# EAGLE library part SIM800C (library SIM800C)
Module: GSM/Bluetooth; GPRS; 2G; 1800MHz, 900MHz; 85.6kbps; SMD by Furkan SONMEZ s.furkan@gmail.com
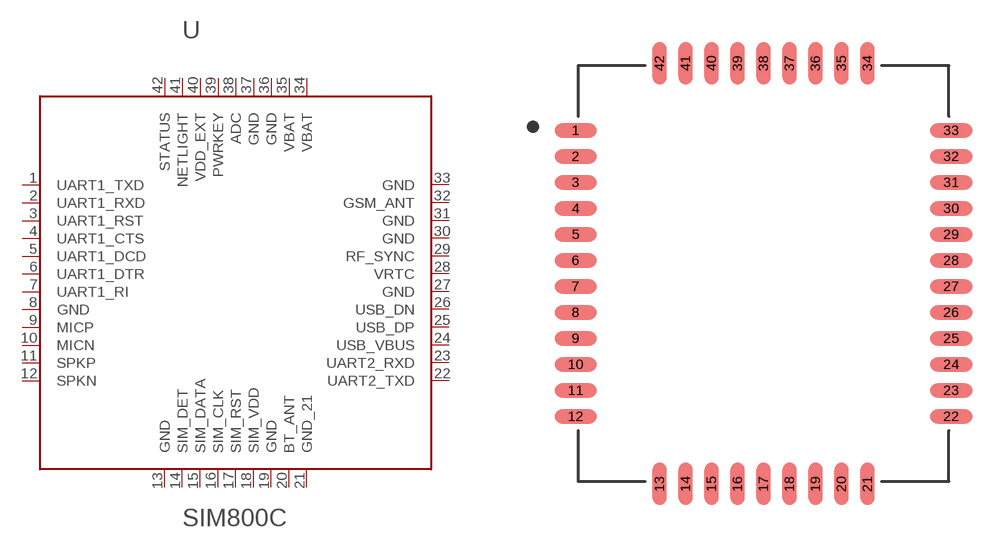
[diagram p0: symbol with the pads of LCC110P1570X1760X250-42N; footprint LCC110P1570X1760X250-42N]

Designator prefix U

## SIM800C (AVAILABILITY: Unavailable; DESCRIPTION: Module: GSM/Bluetooth; GPRS; 2G; 1800MHz, 900MHz; 85.6kbps; SMD; MF: Simcom; MP: SIM800C; PACKAGE: None; PRICE: None)  [LCC110P1570X1760X250-42N]
1  UART1_TXD
2  UART1_RXD
3  UART1_RST
4  UART1_CTS
5  UART1_DCD
6  UART1_DTR
7  UART1_RI
8  GND
9  MICP
10  MICN
11  SPKP
12  SPKN
13  GND
14  SIM_DET
15  SIM_DATA
16  SIM_CLK
17  SIM_RST
18  SIM_VDD
19  GND
20  BT_ANT
21  GND_21
22  UART2_TXD
23  UART2_RXD
24  USB_VBUS
25  USB_DP
26  USB_DN
27  GND
28  VRTC  pwr
29  RF_SYNC
30  GND
31  GND
32  GSM_ANT
33  GND
34  VBAT  pwr
35  VBAT  pwr
36  GND
37  GND
38  ADC
39  PWRKEY
40  VDD_EXT  pwr
41  NETLIGHT
42  STATUS

## Footprint LCC110P1570X1760X250-42N (pad centres in mm)
smd 1.8 x 0.6: 1 -7.95,6.05; 2 -7.95,4.95; 3 -7.95,3.85; 4 -7.95,2.75; 5 -7.95,1.65; 6 -7.95,0.55; 7 -7.95,-0.55; 8 -7.95,-1.65; 9 -7.95,-2.75; 10 -7.95,-3.85; 11 -7.95,-4.95; 12 -7.95,-6.05; 22 7.95,-6.05; 23 7.95,-4.95; 24 7.95,-3.85; 25 7.95,-2.75; 26 7.95,-1.65; 27 7.95,-0.55; 28 7.95,0.55; 29 7.95,1.65; 30 7.95,2.75; 31 7.95,3.85; 32 7.95,4.95; 33 7.95,6.05
smd 0.6 x 1.8: 13 -4.4,-8.9; 14 -3.3,-8.9; 15 -2.2,-8.9; 16 -1.1,-8.9; 17 0,-8.9; 18 1.1,-8.9; 19 2.2,-8.9; 20 3.3,-8.9; 21 4.4,-8.9; 34 4.4,8.9; 35 3.3,8.9; 36 2.2,8.9; 37 1.1,8.9; 38 0,8.9; 39 -1.1,8.9; 40 -2.2,8.9; 41 -3.3,8.9; 42 -4.4,8.9